# Altium schematic symbol library HT-GPS200.SchLib: 1 symbol
Pins are listed as number, name and electrical type; pins without a type are passive.

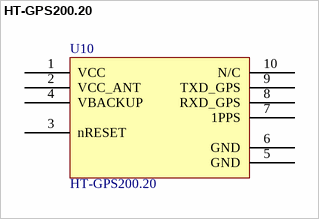
[diagram p0: symbol HT-GPS200.20]

## HT-GPS200.20
designator U10
HT-GPS200.20 GNSS module
footprint HT-GPS200.20 (Footprint not found)
pins: 1 VCC, 2 VCC_ANT, 3 nRESET, 4 VBACKUP, 5 GND, 6 GND, 7 1PPS, 8 RXD_GPS, 9 TXD_GPS, 10 N/C